# Altium footprint library KAE01LAGT.PcbLib: 1 footprints
Each footprint in its own frame and in the unit in brackets; x right, y up, seen from the top. Pads: shape width x height; smd on the part's side, far side on the other; paste and mask are expansions set on the pad; w line width, h text height; cw(c..) or ccw(c..) is an arc to the next point about the centre after c.
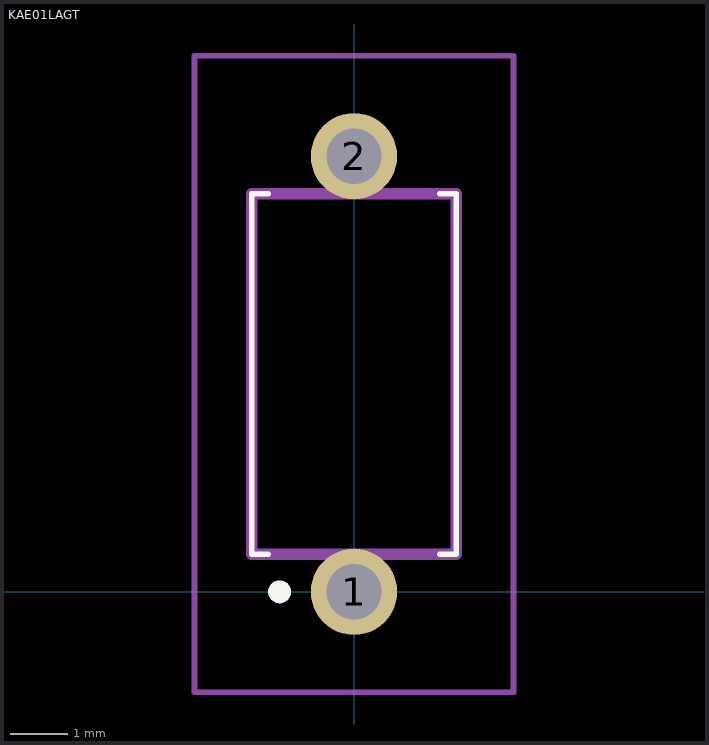
[diagram p0: the footprint, top view; thin cyan lines are the x and y axes]

## KAE01LAGT [mm]
pads (2):
  round 1.509 hole 0.97: 1(0,0) 2(0,7.62)
Top Overlay:
  lines w0.1: -1.5,0.66 -1.79,0.66 -1.79,6.96 -1.5,6.96 ; 1.5,0.66 1.79,0.66 1.79,6.96 1.5,6.96
  lines w0.2: -1.3,-0.1 ccw(c-1.3,0) -1.3,0.1 ccw(c-1.3,0) -1.3,-0.1
Mechanical 15:
  lines w0.2: -1.79,0.66 -1.79,6.96 1.79,6.96 1.79,0.66 -1.79,0.66
Mechanical 20:
  lines w0.1: -2.79,-1.754 -2.79,9.374 2.79,9.374 2.79,-1.754 -2.79,-1.754
3D body "KAE01LAGT.stp": height 4.4, standoff -5, extent -1.905,-0.384 1.675,8.004